# Altium schematic symbol library BTS3046SDL.SchLib: 1 symbol
Pins are listed as number, name and electrical type; pins without a type are passive.

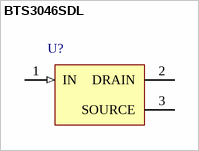
[diagram p0: symbol BTS3046SDL]

## BTS3046SDL
designator U?
HITFET 46 mOhm Single Channel Smart Low Side Power Switch for12 V & 24 V Application, 60 V VDS, 3.6 A ID, -40 to 150 degC, PG-TO252-3-11, Reel, Green; Manufacturer: Infineon; PartNumber: BTS3046SDL; Channels: 1; Green: TRUE; ID: 3.6 A; ID(lim) (min): 10 A; RDS (on)(max): 50 mOhm; ton (max): 100 us; toff (max): 120 us; VDS (max): 60 V; DatasheetVersion: Rev. 1.0; PackageVersion: Dec-06; PackageReference: PG-TO252-3-11; PackageDescription: 3-Pin Plastic (Green) Transistor Single Outline Package, 6.5 x 6.12 mm Body, 2.28 mm Pitch; Supplier 1: Digi-Key; Supplier Part Number 1: BTS3046SDL-ND; Supplier 2: Mouser; Supplier Part Number 2: 726-BTS3046SDL; Group: HITFET; Halogen-free: TRUE; ID(nom): 3.6 A; Packing: Reel; Mounting Technology: Surface Mount; ComponentLink1Description: Manufacturer URL; ComponentLink1URL: http://www.infineon.com/; ComponentLink2Description: Datasheet; ComponentLink2URL: http://www.infineon.com/dgdl/BTS3046SDL_DS_10.pdf?folderId=db3a3043163797a6011667aa084c0e01&fileId=db3a304325afd6e001263232a5146438&location=en.Products.Automotive_ICs.Smart_High-_and_Low-Side_Switches.HITFET___TEMPFET__-_Smart_Low-Side_Switches.DATASHEET.BTS3046SDL_DS_10.pdf; ComponentLink3Description: Package Specification; ComponentLink3URL: http://www.infineon.com/dgdl/BTS142_DS_13.pdf?folderId=db3a3043163797a6011667aa084c0e01&fileId=db3a3043163797a6011667ac98be0e02&location=en.Products.Automotive_ICs.Smart_High-_and_Low-Side_Switches.HITFET___TEMPFET__-_Smart_Low-Side_Switches.DATASHEET.BTS142_DS_13.pdf
footprint INF-PG-TO252-3-11_N (DPAK, 3-Leads, Body 6.5x6.12mm, Pitch 2.28mm, IPC Medium Density)
footprint INF-PG-TO252-3-11_L (DPAK, 3-Leads, Body 6.5x6.12mm, Pitch 2.28mm, IPC High Density)
footprint INF-PG-TO252-3-11_M (DPAK, 3-Leads, Body 6.5x6.12mm, Pitch 2.28mm, IPC Low Density)
pins: 1 IN (in) "Input and fault feedback", 2 DRAIN (power) "Load connection for power DMOS", 3 SOURCE (power) "Ground, Source of power DMOS"